# EAGLE library part MS5540C (library metasense)
MS5540C Miniature Barometric Module
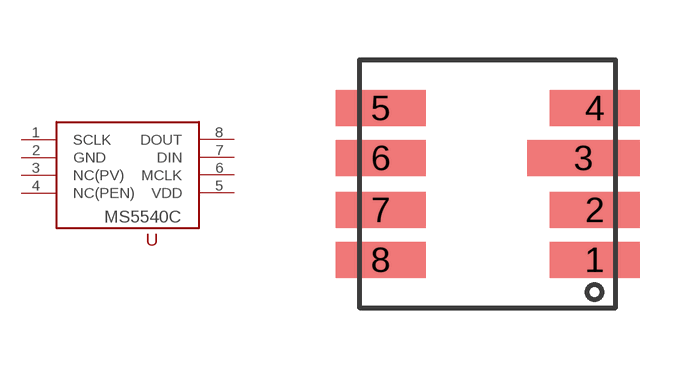
[diagram p0: symbol with the pads of SMD-HYBRID; footprint SMD-HYBRID]

Designator prefix U

## MS5540CSMD  [SMD-HYBRID]
1  SCLK
2  GND
3  NC(PV)
4  NC(PEN)
5  VDD
6  MCLK
7  DIN
8  DOUT

## Footprint SMD-HYBRID (pad centres in mm)
MS5540C Barometric Pressure Sensor, Compact form factor
smd 2.25 x 0.9: 1 5.875,1.2; 2 5.875,2.45; 4 5.875,5; 5 0.525,5; 6 0.525,3.75; 7 0.525,2.45; 8 0.525,1.2
smd 2.8 x 0.9: 3 5.6,3.75